# EAGLE library part BLUETOOTH_TRAVERSANT (library BlueCom_Lib)
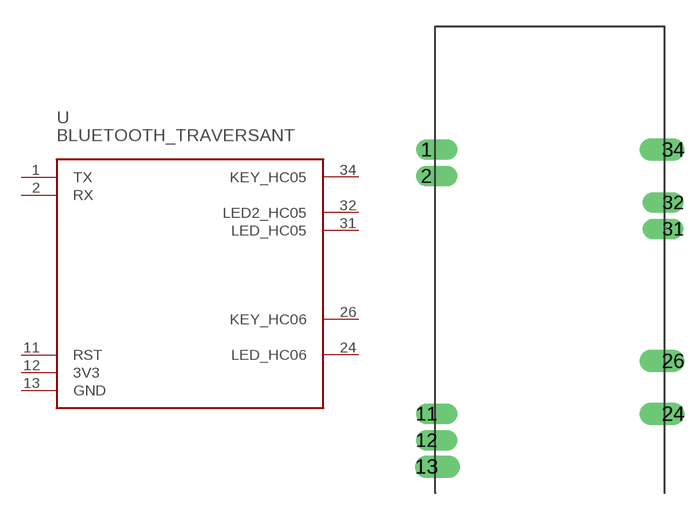
[diagram p1: symbol with the pads of BLUETOOTH_TRAVERSANT; footprint BLUETOOTH_TRAVERSANT]

Designator prefix -

## BLUETOOTH_TRAVERSANT  [BLUETOOTH_TRAVERSANT]
1  TX
2  RX
11  RST
12  3V3
13  GND
24  LED_HC06
26  KEY_HC06
31  LED_HC05
32  LED2_HC05
34  KEY_HC05

## Footprint BLUETOOTH_TRAVERSANT (pad centres in mm)
drill 0.6 pad 1.17 offset: 1 -0.5,0; 2 -0.5,-1.5; 11 -0.5,-15; 12 -0.5,-16.5; 31 13.5,-4.5; 32 13.5,-3
drill 0.6 pad 1.27 offset: 13 -0.5,-18; 24 13.5,-15; 26 13.5,-12; 34 13.5,0